# Altium schematic symbol library Modules.SchLib: 4 symbols
Pins are listed as number, name and electrical type; pins without a type are passive.

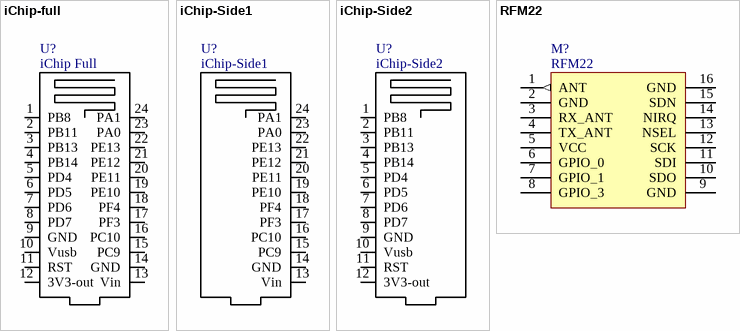
[diagram p0: symbols iChip-full to RFM22]

## iChip-full
designator U?, comment iChip Full
footprint iChip-Full (Footprint not found)
pins: 1 PB8, 2 PB11, 3 PB13, 4 PB14, 5 PD4, 6 PD5, 7 PD6, 8 PD7, 9 GND, 10 Vusb, 11 RST, 12 3V3-out, 13 Vin, 14 GND, 15 PC9, 16 PC10, 17 PF3, 18 PF4, 19 PE10, 20 PE11, 21 PE12, 22 PE13, 23 PA0, 24 PA1

## iChip-Side1
designator U?
footprint iChip-Side1-option1
pins: 13 Vin, 14 GND, 15 PC9, 16 PC10, 17 PF3, 18 PF4, 19 PE10, 20 PE11, 21 PE12, 22 PE13, 23 PA0, 24 PA1

## iChip-Side2
designator U?
pins: 1 PB8, 2 PB11, 3 PB13, 4 PB14, 5 PD4, 6 PD5, 7 PD6, 8 PD7, 9 GND, 10 Vusb, 11 RST, 12 3V3-out

## RFM22
designator M?
footprint RFM22 (Transceiver)
pins: 1 ANT (out), 2 GND (power), 3 RX_ANT, 4 TX_ANT, 5 VCC (power), 6 GPIO_0, 7 GPIO_1, 8 GPIO_3, 9 GND (power), 10 SDO, 11 SDI, 12 SCK, 13 NSEL, 14 NIRQ, 15 SDN, 16 GND (power)